# Altium schematic symbol library SCH - FET - N-CH - ON SEMI MOSFET N-CH SOT-23-3.SCHLIB: 1 symbol
Pins are listed as number, name and electrical type; pins without a type are passive.

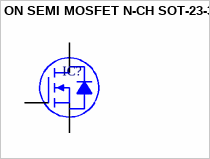
[diagram p0: symbol ON SEMI MOSFET N-CH SOT-23-3]

## ON SEMI MOSFET N-CH SOT-23-3
designator IC?
pins: 1 G, 2 S, 3 D